# Altium footprint library CAPACITORS_MKlib.PcbLib: 35 footprints (part 1 of 3)
Each footprint in its own frame and in the unit in brackets; x right, y up, seen from the top. Pads: shape width x height; smd on the part's side, far side on the other; paste and mask are expansions set on the pad; w line width, h text height; cw(c..) or ccw(c..) is an arc to the next point about the centre after c.
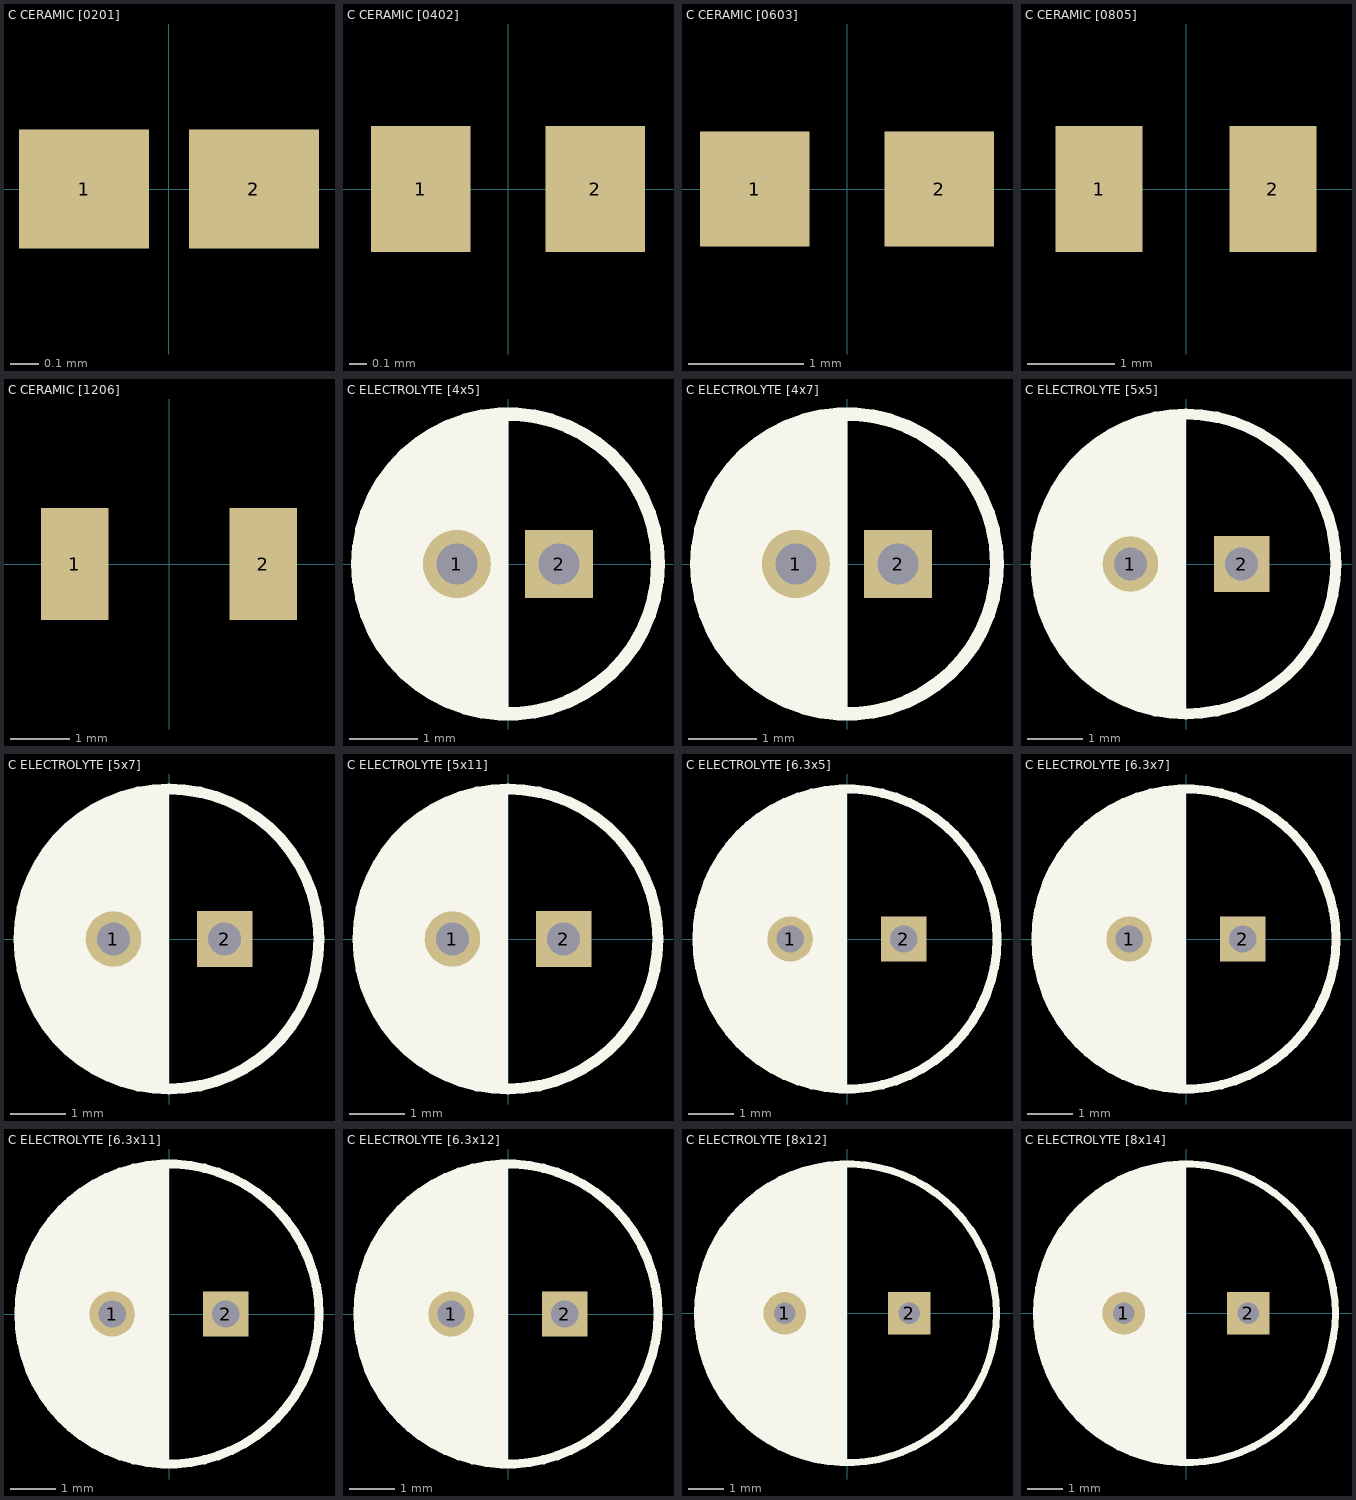
[diagram p0: the footprints below, top view; thin cyan lines are the x and y axes]

## C CERAMIC [0201] [mm]
pads (2):
  rect 0.46x0.42 smd: 1(-0.3,0) 2(0.3,0)
3D body "C_0201.STEP": height 0.3, standoff 0, extent -0.3,-0.165 0.3,0.165

## C CERAMIC [0402] [mm]
pads (2):
  rect 0.57x0.72 smd: 1(-0.5,0) 2(0.5,0)
3D body "C_0402.STEP": height 0.51, standoff -0.01, extent -0.51,-0.305 0.51,0.305

## C CERAMIC [0603] [mm]
pads (2):
  rect 0.95x1 smd: 1(-0.8,0) 2(0.8,0)
3D body "C_0603.STEP": height 0.8, standoff -0.01, extent -0.8,-0.45 0.8,0.45

## C CERAMIC [0805] [mm]
pads (2):
  rect 1x1.45 smd: 1(-1,0) 2(1,0)
3D body "C_0805.STEP": height 0.94, standoff 0, extent -1.005,-0.625 1.005,0.625

## C CERAMIC [1206] [mm]
pads (2):
  rect 1.15x1.9 smd: 1(-1.6,0) 2(1.6,0)
3D body "C_1206.STEP": height 1.6, standoff 0, extent -1.6,-0.97 1.6,0.93

## C ELECTROLYTE [4x5] [mm]
pads (2):
  round 1 hole 0.6: 1(-0.75,0)
  rect 1x1 hole 0.6: 2(0.75,0)
Top Overlay:
  circle w0.2: c0,0 r2.2
  region: 0,2.15 -0.8,2.1 -1.25,1.75 -1.3,1.75 -1.65,1.4 -1.75,1.2 -2.05,0.8 -2.1,0.4 -2.15,0.25 -2.15,-0.45 -2.1,-0.6 -2,-0.85 -1.9,-1.1 -1.75,-1.3 -1.4,-1.65 -1.3,-1.7 -1,-1.95 -0.75,-2.05 -0.5,-2.15 0,-2.15
  lines w0.2: -0.1,-2.15 -0.1,2.15
3D body "C_al_el_-1.5-4x5-black.step": height 5, standoff -3, extent -2.001,-1.99 1.99,1.99

## C ELECTROLYTE [4x7] [mm]
pads (2):
  round 1 hole 0.6: 1(-0.75,0)
  rect 1x1 hole 0.6: 2(0.75,0)
Top Overlay:
  circle w0.2: c0,0 r2.2
  region: 0,2.15 -0.8,2.1 -1.25,1.75 -1.3,1.75 -1.65,1.4 -1.75,1.2 -2.05,0.8 -2.1,0.4 -2.15,0.25 -2.15,-0.45 -2.1,-0.6 -2,-0.85 -1.9,-1.1 -1.75,-1.3 -1.4,-1.65 -1.3,-1.7 -1,-1.95 -0.75,-2.05 -0.5,-2.15 0,-2.15
  lines w0.2: -0.1,-2.15 -0.1,2.15
3D body "C_al_el_-1.5-4x7-black.step": height 7, standoff -3, extent -2.001,-1.99 1.99,1.99

## C ELECTROLYTE [5x5] [mm]
pads (2):
  round 1 hole 0.6: 1(-1,0)
  rect 1x1 hole 0.6: 2(1,0)
Top Overlay:
  circle w0.2: c0,0 r2.7
  region: -0.038,2.662 -0.527,2.631 -1.41,2.321 -2.1,1.7 -2.442,1.084 -2.548,0.746 -2.65,0.05 -2.583,-0.55 -2.4,-1.1 -2.1,-1.75 -1.518,-2.157 -1.306,-2.305 -1,-2.45 -0.543,-2.666 -0.078,-2.666 -0.038,-2.157
  lines w0.2: -0.1,-2.65 -0.1,2.65
3D body "C_al_el_-2.0-5x5-black.step": height 5, standoff -3, extent -2.501,-2.499 2.5,2.499

## C ELECTROLYTE [5x7] [mm]
pads (2):
  round 1 hole 0.6: 1(-1,0)
  rect 1x1 hole 0.6: 2(1,0)
Top Overlay:
  circle w0.2: c0,0 r2.7
  region: -0.038,2.662 -0.527,2.631 -1.41,2.321 -2.1,1.7 -2.442,1.084 -2.548,0.746 -2.65,0.05 -2.583,-0.55 -2.4,-1.1 -2.1,-1.75 -1.518,-2.157 -1.306,-2.305 -1,-2.45 -0.543,-2.666 -0.078,-2.666 -0.038,-2.157
  lines w0.2: -0.1,-2.65 -0.1,2.65
3D body "C_al_el_-2.0-5x7-black.step": height 7, standoff -3, extent -2.501,-2.499 2.5,2.499

## C ELECTROLYTE [5x11] [mm]
pads (2):
  round 1 hole 0.6: 1(-1,0)
  rect 1x1 hole 0.6: 2(1,0)
Top Overlay:
  circle w0.2: c0,0 r2.7
  region: -0.038,2.662 -0.527,2.631 -1.41,2.321 -2.1,1.7 -2.442,1.084 -2.548,0.746 -2.65,0.05 -2.583,-0.55 -2.4,-1.1 -2.1,-1.75 -1.518,-2.157 -1.306,-2.305 -1,-2.45 -0.543,-2.666 -0.078,-2.666 -0.038,-2.157
  lines w0.2: -0.1,-2.65 -0.1,2.65
3D body "C_al_el_-2.0-5x11-black.step": height 11, standoff -3, extent -2.501,-2.499 2.5,2.499

## C ELECTROLYTE [6.3x5] [mm]
pads (2):
  round 1 hole 0.6: 1(-1.25,0)
  rect 1x1 hole 0.6: 2(1.25,0)
Top Overlay:
  circle w0.2: c0,0 r3.3
  region: -0.078,3.298 -1.45,2.95 -2.1,2.55 -2.45,2.2 -2.75,1.75 -3.05,1.2 -3.301,0.225 -3.16,-0.96 -2.704,-1.854 -2.4,-2.157 -2.15,-2.45 -1.7,-2.75 -1,-3.119 -0.078,-3.25 -0.038,-2.157
  lines w0.2: -0.1,-3.25 -0.1,3.3
3D body "C_al_el_-2.5-6.3x5-black.step": height 5, standoff -3, extent -3.151,-3.15 3.15,3.15

## C ELECTROLYTE [6.3x7] [mm]
pads (2):
  round 1 hole 0.6: 1(-1.25,0)
  rect 1x1 hole 0.6: 2(1.25,0)
Top Overlay:
  circle w0.2: c0,0 r3.3
  region: -0.078,3.298 -1.45,2.95 -2.1,2.55 -2.45,2.2 -2.75,1.75 -3.05,1.2 -3.301,0.225 -3.16,-0.96 -2.704,-1.854 -2.4,-2.157 -2.15,-2.45 -1.7,-2.75 -1,-3.119 -0.078,-3.25 -0.038,-2.157
  lines w0.2: -0.1,-3.25 -0.1,3.3
3D body "C_al_el_-2.5-6.3x7-black.step": height 7, standoff -3, extent -3.151,-3.15 3.15,3.15

## C ELECTROLYTE [6.3x11] [mm]
pads (2):
  round 1 hole 0.6: 1(-1.25,0)
  rect 1x1 hole 0.6: 2(1.25,0)
Top Overlay:
  circle w0.2: c0,0 r3.3
  region: -0.078,3.298 -1.45,2.95 -2.1,2.55 -2.45,2.2 -2.75,1.75 -3.05,1.2 -3.301,0.225 -3.16,-0.96 -2.704,-1.854 -2.4,-2.157 -2.15,-2.45 -1.7,-2.75 -1,-3.119 -0.078,-3.25 -0.038,-2.157
  lines w0.2: -0.1,-3.25 -0.1,3.3
3D body "C_al_el_-2.5-6.3x11-black.step": height 11, standoff -3, extent -3.151,-3.15 3.15,3.15

## C ELECTROLYTE [6.3x12] [mm]
pads (2):
  round 1 hole 0.6: 1(-1.25,0)
  rect 1x1 hole 0.6: 2(1.25,0)
Top Overlay:
  circle w0.2: c0,0 r3.3
  region: -0.078,3.298 -1.45,2.95 -2.1,2.55 -2.45,2.2 -2.75,1.75 -3.05,1.2 -3.301,0.225 -3.16,-0.96 -2.704,-1.854 -2.4,-2.157 -2.15,-2.45 -1.7,-2.75 -1,-3.119 -0.078,-3.25 -0.038,-2.157
  lines w0.2: -0.1,-3.25 -0.1,3.3
3D body "C_al_el_-2.5-6.3x12-black.step": height 12, standoff -3, extent -3.151,-3.15 3.15,3.15

## C ELECTROLYTE [8x12] [mm]
pads (2):
  round 1.2 hole 0.6: 1(-1.75,0)
  rect 1.2x1.2 hole 0.6: 2(1.75,0)
Top Overlay:
  circle w0.2: c0,0 r4.2
  region: -0.1,4.17 -1.376,3.934 -2.1,3.6 -2.55,3.3 -3.2,2.7 -3.7,1.9 -4.1,0.7 -4.138,-0.612 -3.95,-1.3 -3.7,-2 -3.35,-2.45 -2.5,-3.35 -1.662,-3.872 -0.103,-4.236 -0.038,-2.157
  lines w0.2: -0.1,-4.15 -0.1,4.15
3D body "C_al_el_-3.5-8x12-black.step": height 12, standoff -3, extent -4.001,-3.999 4,3.999

## C ELECTROLYTE [8x14] [mm]
pads (2):
  round 1.2 hole 0.6: 1(-1.75,0)
  rect 1.2x1.2 hole 0.6: 2(1.75,0)
Top Overlay:
  circle w0.2: c0,0 r4.2
  region: -0.1,4.17 -1.376,3.934 -2.1,3.6 -2.55,3.3 -3.2,2.7 -3.7,1.9 -4.1,0.7 -4.138,-0.612 -3.95,-1.3 -3.7,-2 -3.35,-2.45 -2.5,-3.35 -1.662,-3.872 -0.103,-4.236 -0.038,-2.157
  lines w0.2: -0.1,-4.15 -0.1,4.15
3D body "C_al_el_-3.5-8x14-black.step": height 14, standoff -3, extent -4.001,-3.999 4,3.999